# Altium schematic symbol library 三极管.SchLib: 5 symbols
Pins are listed as number, name and electrical type; pins without a type are passive.

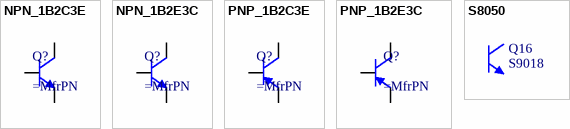
[diagram p0: symbols NPN_1B2C3E to S8050]

## NPN_1B2C3E
designator Q?
footprint SOT-23
footprint TO126 (126晶体管)
footprint TO220A (220，3脚晶体管)
footprint TO220B (220，3脚晶体管)
footprint TO-92A
footprint TO-92B
pins: 1 B, 2 C, 3 E
1 alternate drawing of the same symbol

## NPN_1B2E3C
designator Q?
footprint SOT-23
footprint TO126 (126晶体管)
footprint TO220A (220，3脚晶体管)
footprint TO220B (220，3脚晶体管)
footprint TO-92A
footprint TO-92B
pins: 1 B, 2 E, 3 C
1 alternate drawing of the same symbol

## PNP_1B2C3E
designator Q?
pins: 1 B, 2 E, 3 C

## PNP_1B2E3C
designator Q?
footprint SOT-23
footprint TO126 (126晶体管)
footprint TO220A (220，3脚晶体管)
footprint TO220B (220，3脚晶体管)
footprint TO-92A
footprint TO-92B
pins: 1 B, 2 E, 3 C

## S8050
designator Q16, comment S9018
三极管(NPN)
footprint SOT-23(SOT-23-3)